# Altium footprint library Resistor_DIP.PcbLib: 68 footprints (part 5 of 5)
Each footprint in its own frame and in the unit in brackets; x right, y up, seen from the top. Pads: shape width x height; smd on the part's side, far side on the other; paste and mask are expansions set on the pad; w line width, h text height; cw(c..) or ccw(c..) is an arc to the next point about the centre after c.
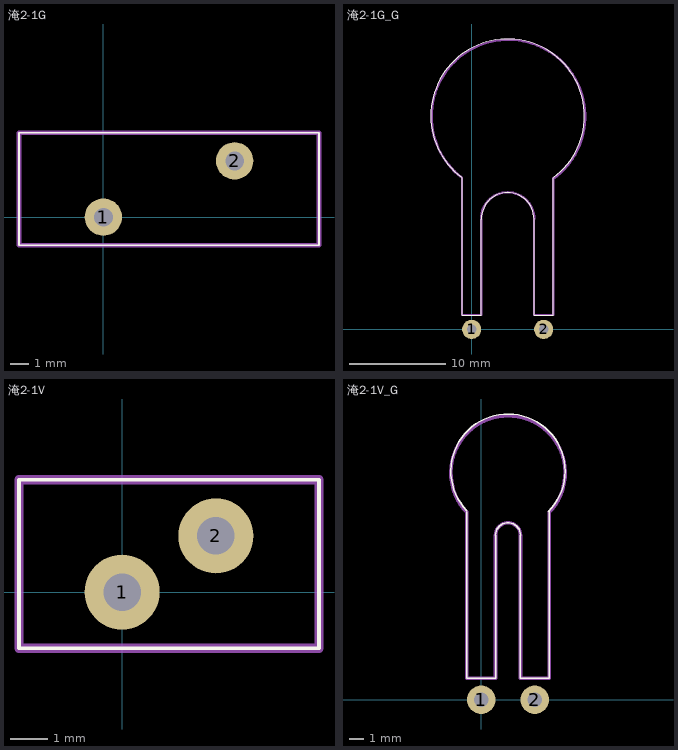
[diagram p4: the footprints below, top view; thin cyan lines are the x and y axes]

## 淹2-1G [mm]
pads (2):
  round 2 hole 1: 1(0,0) 2(7,3)
Top Overlay:
  lines w0.1: -4.5,-1.5 11.5,-1.5 11.5,4.5 -4.5,4.5 -4.5,-1.5
Mechanical 1:
  lines w0.25: -4.5,-1.5 11.5,-1.5 11.5,4.5 -4.5,4.5 -4.5,-1.5

## 淹2-1G_G [mm]
pads (2):
  round 2 hole 1: 1(0,0) 2(7.5,0)
Top Overlay:
  lines w0.1: -1.053,15.853 cw(c3.75,22.25) 8.531,15.836 ; -1,15.75 -1,1.5 1,1.5 1,11.5 cw(c3.75,11.5) 6.5,11.5 6.5,1.5 8.5,1.5 8.5,15.75
Mechanical 1:
  lines w0.25: -1.034,15.82 cw(c3.825,22.175) 8.505,15.686 ; -1,15.75 -1,1.5 1,1.5 1,11.5 ; 0.975,11.5 cw(c3.75,11.5) 6.525,11.5 ; 6.5,11.5 6.5,1.5 8.5,1.5 8.5,15.75

## 淹2-1V [mm]
pads (2):
  round 2 hole 1: 1(0,0) 2(2.5,1.5)
Top Overlay:
  lines w0.1: -2.75,-1.5 5.25,-1.5 5.25,3 -2.75,3 -2.75,-1.5
Mechanical 1:
  lines w0.25: -2.75,-1.5 5.25,-1.5 5.25,3 -2.75,3 -2.75,-1.5

## 淹2-1V_G [mm]
pads (2):
  round 2 hole 1: 1(0,0) 2(3.75,0)
Top Overlay:
  lines w0.1: -1.012,13.231 cw(c1.875,16) 4.703,13.172 ; -1,13.15 -1,1.5 1,1.5 1,11.5 ; 0.991,11.5 cw(c1.875,11.5) 2.759,11.5 ; 2.75,11.5 2.75,1.5 4.75,1.5 4.75,13.15
Mechanical 1:
  lines w0.25: -1.017,13.111 cw(c1.875,15.875) 4.767,13.111 ; -1,13.15 -1,1.5 1,1.5 1,11.5 ; 0.991,11.5 cw(c1.875,11.5) 2.759,11.5 ; 2.75,11.5 2.75,1.5 4.75,1.5 4.75,13.15